# EAGLE library part OPA2313IDRGT (library synapseWearV1-4)
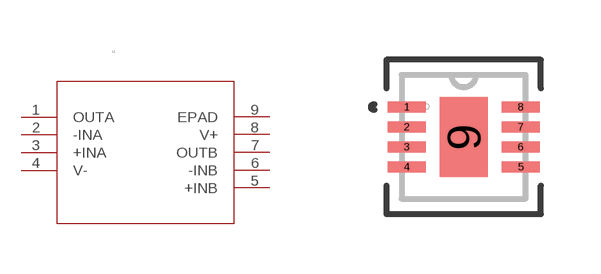
[diagram p6: symbol with the pads of DRG8_1P2X2P0; footprint DRG8_1P2X2P0]

Designator prefix U

## OPA2313IDRGT (MANUFACTURER_PART_NUMBER: OPA2313IDRGT; VENDOR: Texas Instruments)  [DRG8_1P2X2P0]
1  OUTA  out
2  -INA  in
3  +INA  in
4  V-
5  +INB  in
6  -INB  in
7  OUTB  out
8  V+
9  EPAD  pas

## Footprint DRG8_1P2X2P0 (pad centres in mm)
smd 0.95 x 0.28: 1 -1.425,0.75; 2 -1.425,0.25; 3 -1.425,-0.25; 4 -1.425,-0.75; 5 1.425,-0.75; 6 1.425,-0.25; 7 1.425,0.25; 8 1.425,0.75
smd 1.2 x 2: 9 0,0